# Altium footprint library LdcPower.PcbLib: 11 footprints
Each footprint in its own frame and in the unit in brackets; x right, y up, seen from the top. Pads: shape width x height; smd on the part's side, far side on the other; paste and mask are expansions set on the pad; w line width, h text height; cw(c..) or ccw(c..) is an arc to the next point about the centre after c.
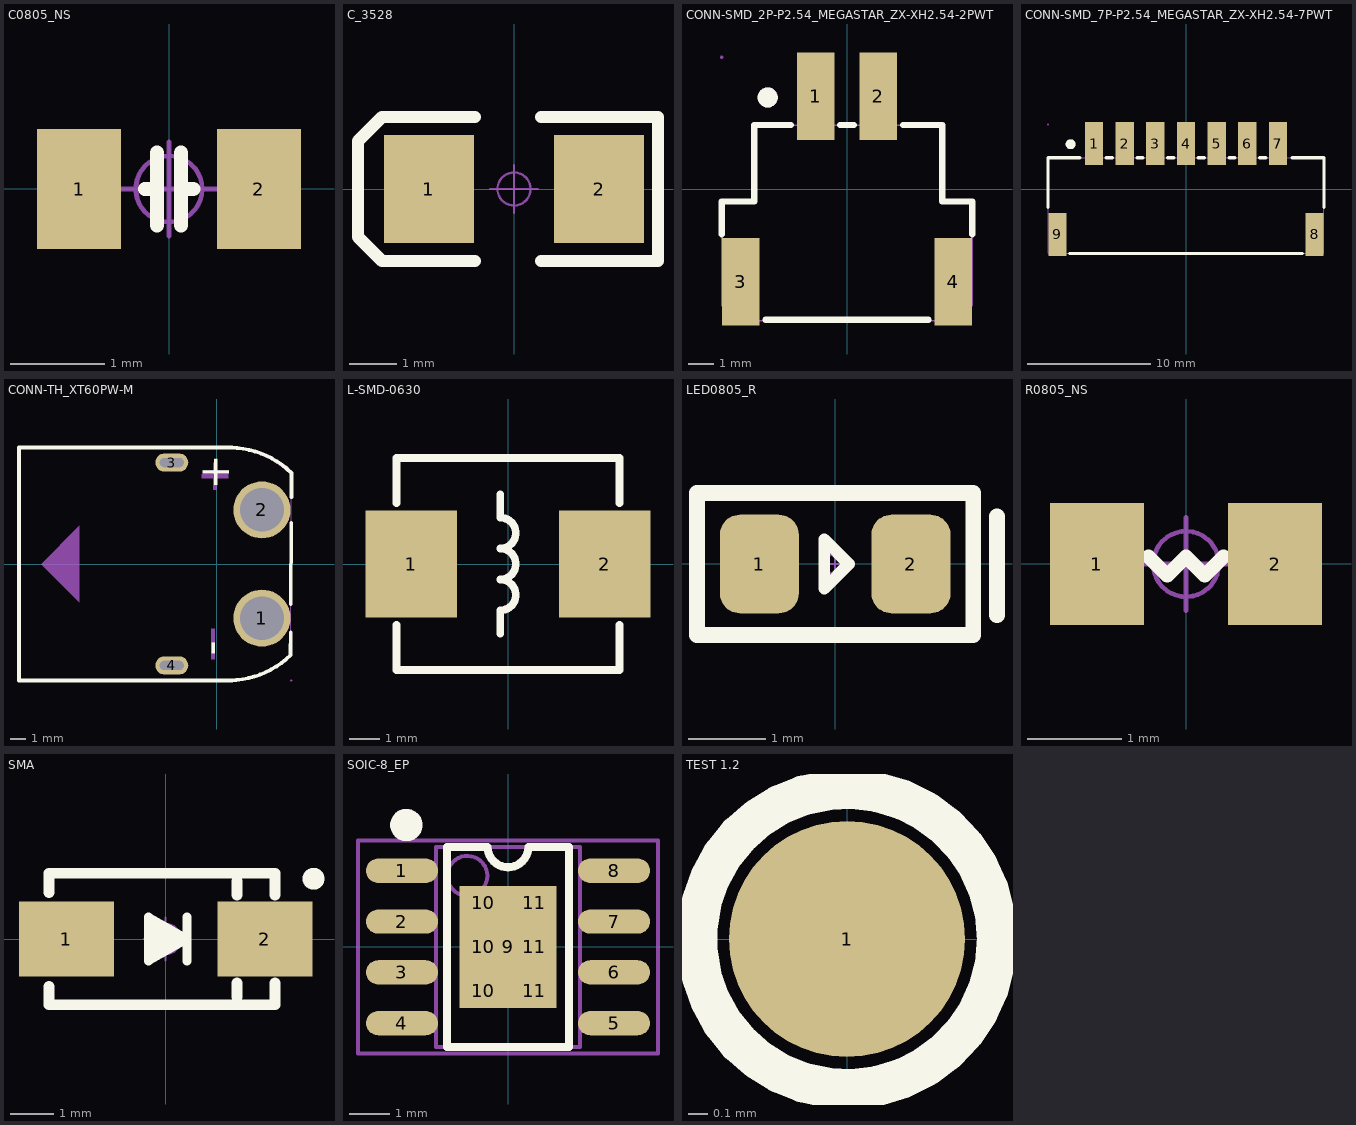
[diagram p0: the footprints below, top view; thin cyan lines are the x and y axes]

## C0805_NS [mil] "贴片MLCC电容-无丝印"
height 19.68
pads (2):
  rect 35x50 smd: 1(-37.4,0) 2(37.4,0)
Top Overlay:
  lines w6: -10,0 -5,0 ; -5,-15 -5,15 ; 5,-15 5,15 ; 5,0 10,0
Mechanical 15:
  circle w1.97: c0,0 r13.78
  circle w1.97: c0,0 r13.78
  lines w1.97: -19.68,0 19.68,0 -19.68,0 ; 0,-19.68 0,19.68 0,-19.68
3D body "C0805H13-2S.stp": height 51.18, standoff -0.04, extent -39.36,-25.58 39.38,25.6

## C_3528 [mil] "长3.5mm，宽2.8mm，厚1.9mm            联系卖家 免费人工查找封装"
height 43.31
pads (2):
  rect 75x90 smd: 1(-70.87,-0.01) 2(70.86,-0.01)
Top Overlay:
  lines w10: -32.51,-60 -110,-60 -130,-40 -130,40 -110,60 -32.51,60 ; 22.49,-60 120,-60 120,60 22.49,60
Mechanical 15:
  circle w1.97: c0,0 r13.78
  lines w1.97: -19.68,0 19.68,0 ; 0,-19.68 0,19.68
3D body "cd_b_3528_.STEP": height 75.84, standoff 1, extent -68.91,-55.11 68.91,55.12

## CONN-SMD_2P-P2.54_MEGASTAR_ZX-XH2.54-2PWT [mm]
pads (4):
  rect 1.5x3.5 smd paste+0 mask+0.05: 1(-1.25,3.7) 2(1.25,3.7) 3(-4.23,-3.7) 4(4.23,-3.7)
Top Overlay:
  circle w0.4: c-3.16,3.65 r0.2
  lines w0.254: -5,-1.8 -5,-0.5 -3.7,-0.5 -3.7,2.55 -2.231,2.55 ; -3.249,-5.207 3.249,-5.207 ; -0.269,2.55 -0.108,2.55 ; -0.25,2.55 0.25,2.55 0.269,2.55 ; 2.231,2.55 3.8,2.55 3.8,-0.4 3.8,-0.5 5,-0.5 5,-1.8
Mechanical 2:
  circle w0.4: c-3.16,3.65 r0.2
Mechanical 6:
  lines w0.051: -5,-4.65 -3.75,-4.65 -3.75,-5.25 3.75,-5.25 3.75,-4.65 5,-4.65 5,-0.45 3.75,-0.45 3.75,2.55 -3.75,2.55 -3.75,-0.45 -5,-0.45 -5,-4.65
Mechanical 8:
  region: -4.94,5.25 -4.94,5.225 -4.975,5.19 -5.025,5.19 -5.06,5.225 -5.06,5.25 -5.06,5.275 -5.025,5.31 -4.975,5.31 -4.94,5.275
Mechanical 9:
  region: -4.45,-2.2 -3.81,-2.2 -3.81,-5.2 -4.45,-5.2
  region: 3.81,-2.2 4.45,-2.2 4.45,-5.2 3.81,-5.2
  region: 0.93,5.25 1.57,5.25 1.57,2.25 0.93,2.25
  region: -1.57,5.25 -0.93,5.25 -0.93,2.25 -1.57,2.25

## CONN-SMD_7P-P2.54_MEGASTAR_ZX-XH2.54-7PWT [mm]
pads (9):
  rect 1.5x3.5 smd paste+0 mask+0.05: 1(-7.5,3.7) 2(-5,3.7) 3(-2.5,3.7) 4(0,3.7) 5(2.5,3.7) 6(5,3.7) 7(7.5,3.7) 8(10.48,-3.7) 9(-10.48,-3.7)
Top Overlay:
  circle w0.4: c-9.41,3.65 r0.2
  lines w0.254: -11.25,-1.518 -11.25,2.55 -8.641,2.55 ; -9.5,-5.25 9.5,-5.25 ; -6.5,2.55 -6,2.55 ; -4,2.55 -3.5,2.55 ; -1.5,2.55 -1,2.55 ; 1,2.55 1.5,2.55 ; 3.5,2.55 4,2.55 ; 6,2.55 6.5,2.55 ; 8.641,2.55 11.25,2.55 11.25,-1.518
Mechanical 2:
  circle w0.4: c-9.41,3.65 r0.2
Mechanical 6:
  lines w0.051: -11.25,-5.25 11.25,-5.25 11.25,2.55 -11.25,2.55 -11.25,-5.25
Mechanical 8:
  region: -11.19,5.25 -11.19,5.225 -11.225,5.19 -11.275,5.19 -11.31,5.225 -11.31,5.25 -11.31,5.275 -11.275,5.31 -11.225,5.31 -11.19,5.275
Mechanical 9:
  region: 10.23,-2.2 10.73,-2.2 10.73,-5.2 10.23,-5.2
  region: -10.73,-2.2 -10.23,-2.2 -10.23,-5.2 -10.73,-5.2
  region: -7.82,5.25 -7.18,5.25 -7.18,2.25 -7.82,2.25
  region: -5.32,5.25 -4.68,5.25 -4.68,2.25 -5.32,2.25
  region: -2.82,5.25 -2.18,5.25 -2.18,2.25 -2.82,2.25
  region: -0.32,5.25 0.32,5.25 0.32,2.25 -0.32,2.25
  region: 2.18,5.25 2.82,5.25 2.82,2.25 2.18,2.25
  region: 4.68,5.25 5.32,5.25 5.32,2.25 4.68,2.25
  region: 7.18,5.25 7.82,5.25 7.82,2.25 7.18,2.25

## CONN-TH_XT60PW-M [mm]
pads (4):
  round 3.8 hole 2.9 paste+0 mask+0.05: 1(3,-3.6) 2(3,3.6)
  oval 2.2x1.2 hole 0.6 slot 1.6 at 0 deg paste+0 mask+0.05: 3(-3,6.75) 4(-3,-6.75)
Top Overlay:
  lines w0.254: 0.889,-7.747 ccw(c0.746,-1.749) 4.917,-6.062 ; 0.937,7.747 cw(c0.794,1.749) 4.965,6.062 4.956,4.441 ; 1,-7.75 -13.166,-7.75 -13.166,7.75 1,7.75 ; 4.902,-5.994 4.909,-4.544 ; 4.919,-2.676 4.947,2.738
  text "+" at 0.81,4.953 h2.03
  text "-" at 0.556,-6.096 h2.03
Mechanical 2:
  region: -0.381,-4.318 -0.127,-4.318 -0.127,-6.35 -0.381,-6.35
  region: -0.254,6.731 0,6.731 0,5.969 0.762,5.969 0.762,5.715 0,5.715 0,4.953 -0.254,4.953 -0.254,5.715 -1.016,5.715 -1.016,5.969 -0.254,5.969
  region: -9.144,2.54 -9.144,-2.54 -11.684,0
Mechanical 6:
  lines w0.051: -13.166,-7.747 -13.166,7.747 1.016,7.747 1.778,7.62 2.794,7.366 3.81,6.858 4.826,6.096 4.953,5.969 4.902,-5.994 4.699,-6.223 3.937,-6.858 3.175,-7.239 2.159,-7.493 1.143,-7.747 -13.166,-7.747
Mechanical 8:
  region: 5.013,-7.747 5.013,-7.772 4.978,-7.807 4.928,-7.807 4.893,-7.772 4.893,-7.747 4.893,-7.722 4.928,-7.687 4.978,-7.687 5.013,-7.722
Mechanical 9:
  region: -2.4,-6.55 -2.4,-6.95 -3.6,-6.95 -3.6,-6.55
  region: -2.4,6.95 -2.4,6.55 -3.6,6.55 -3.6,6.95
  region: 4,-3.6 4,-3.732 3.932,-3.986 3.8,-4.214 3.614,-4.4 3.386,-4.532 3.132,-4.6 2.868,-4.6 2.614,-4.532 2.386,-4.4 2.2,-4.214 2.068,-3.986 2,-3.732 2,-3.6 2,-3.468 2.068,-3.214 2.2,-2.986 2.386,-2.8 2.614,-2.668 2.868,-2.6 3.132,-2.6 3.386,-2.668 3.614,-2.8 3.8,-2.986 3.932,-3.214 4,-3.468
  region: 4,3.6 4,3.468 3.932,3.214 3.8,2.986 3.614,2.8 3.386,2.668 3.132,2.6 2.868,2.6 2.614,2.668 2.386,2.8 2.2,2.986 2.068,3.214 2,3.468 2,3.6 2,3.732 2.068,3.986 2.2,4.214 2.386,4.4 2.614,4.532 2.868,4.6 3.132,4.6 3.386,4.532 3.614,4.4 3.8,4.214 3.932,3.986 4,3.732

## L-SMD-0630 [mm] "一体化成型电感"
height 1.1
pads (2):
  rect 3x3.5 smd: 1(-3.175,0) 2(3.175,0)
Top Overlay:
  lines w0.254: -3.658,-2.007 -3.658,-3.48 3.658,-3.48 3.658,-2.007 ; -3.658,2.007 -3.658,3.48 3.658,3.48 3.658,2.007 ; -0.254,-2.286 -0.254,-1.524 ccw(c-0.254,-1.016) -0.254,-0.508 ccw(c-0.254,0) -0.254,0.508 ccw(c-0.254,1.016) -0.254,1.524 -0.254,2.286
3D body "SMD-0630.stp": height -0.46, standoff -3.48, extent -3.475,-3.3 3.475,3.3

## LED0805_R [mil] "红色0805LED            联系卖家 免费查找封装"
height 43.31
pads (2):
  rrect50% 40x50 smd: 1(-38.4,0) 2(38.4,0)
Top Overlay:
  lines w6: -5.5,-12.5 -5.5,12.5 7,0 -5.5,-12.5
  lines w8: 82,-26 82,24 ; -70,-36 70,-36 70,36 -70,36 -70,-36
Mechanical 15:
  circle w1: c0,0 r5
  lines w1: -7.87,0 7.87,0 ; 0,-7.87 0,7.87
3D body "LED_0805-R.STEP": height 26.34, standoff -0.04, extent -39.37,-24.65 39.37,24.64
3D body "LED 0805玻璃罩.STEP": height 31.69, standoff 12.01, extent -29.53,-24.6 29.53,24.61

## R0805_NS [mm] "1/8W贴片电阻-无丝印"
height 1.1
pads (2):
  rect 1x1.3 smd: 1(-0.95,0) 2(0.95,0)
Top Overlay:
  lines w0.152: -0.4,0.076 -0.2,-0.124 0,0.076 0.2,-0.124 0.4,0.076
Mechanical 15:
  circle w0.05: c0,0 r0.35
  lines w0.05: -0.5,0 0.5,0 ; 0,-0.5 0,0.5
3D body "R0805-2.stp": height 0.5, standoff 0, extent -1,-0.625 1,0.625

## SMA [mm] "4.5x2.6*2.2mm（长宽高，不包括引脚）联系卖家 免费查找封装"
height 2.54
pads (2):
  rect 2.2x1.75 smd: 1(-2.3,0) 2(2.3,0)
Top Overlay:
  circle w0.254: c3.429,1.397 r0.127
  lines w0.203: 0.494,-0.508 0.494,0.508 ; -0.395,-0.508 -0.395,0.508 0.494,0 -0.395,-0.508
  lines w0.254: -2.7,-1.105 -2.7,-1.524 2.54,-1.524 2.54,-1.016 ; -2.7,1.08 -2.7,1.524 2.54,1.524 2.54,1.016 ; -0.33,0.305 0.305,0 -0.254,-0.305 -0.254,0.051 0.023,0 ; 1.651,-1.35 1.651,-1.016 ; 1.651,1.016 1.651,1.35
Mechanical 15:
  circle w0.05: c0,0 r0.35
  lines w0.05: -0.5,0 0.5,0 ; 0,-0.5 0,0.5
3D body "SMA.stp": height 2.15, standoff 0.05, extent -2.552,-1.3 2.552,1.3

## SOIC-8_EP [mm] "5*6*1.8mm（长宽高)         联系卖家 免费查找封装"
height 1.75
pads (15):
  oval 1.8x0.61 smd: 1(-2.65,1.905) 2(-2.65,0.635) 3(-2.65,-0.635) 4(-2.65,-1.905) 5(2.65,-1.905) 6(2.65,-0.635) 7(2.65,0.635) 8(2.65,1.905)
  rect 2.413x3.048 smd paste-2: 9(0,0)
  rect 0.9x0.7 on Top Paste: 10(-0.625,-1.1) 10(-0.625,0) 10(-0.625,1.1) 11(0.65,-1.1) 11(0.65,0) 11(0.65,1.1)
Top Overlay:
  circle w0.5: c-2.54,3.048 r0.155
  lines w0.2: -1.524,2.5 -1.524,-2.5 1.524,-2.5 1.524,2.5
  lines w0.203: -1.524,2.5 -0.508,2.5 ccw(c0,2.5) 0,1.992 ccw(c0,2.5) 0.508,2.5 1.524,2.5
Mechanical 13:
  circle w0.1: c-1.016,1.778 r0.5
  lines w0.1: -1.8,-2.5 -1.8,2.5 1.8,2.5 1.8,-2.5 -1.8,-2.5
Mechanical 15:
  circle w0.05: c0,0 r0.35
  lines w0.05: -0.5,0 0.5,0 ; 0,-0.5 0,0.5
  lines w0.1: -3.75,-2.667 3.75,-2.667 3.75,2.667 -3.75,2.667 -3.75,-2.667
3D body "ESOP8.STEP": height 1.53, standoff -0.01, extent -3.003,-2.5 3.003,2.5

## TEST 1.2 [mm] "测试点1.2mm"
height 1.1
pads (1):
  round 1.2 smd paste-1.2: 1(0,0)
Top Overlay:
  circle w0.203: c0,0 r0.762